# Altium footprint library Passive.PcbLib: 74 footprints (part 1 of 5)
Each footprint in its own frame and in the unit in brackets; x right, y up, seen from the top. Pads: shape width x height; smd on the part's side, far side on the other; paste and mask are expansions set on the pad; w line width, h text height; cw(c..) or ccw(c..) is an arc to the next point about the centre after c.
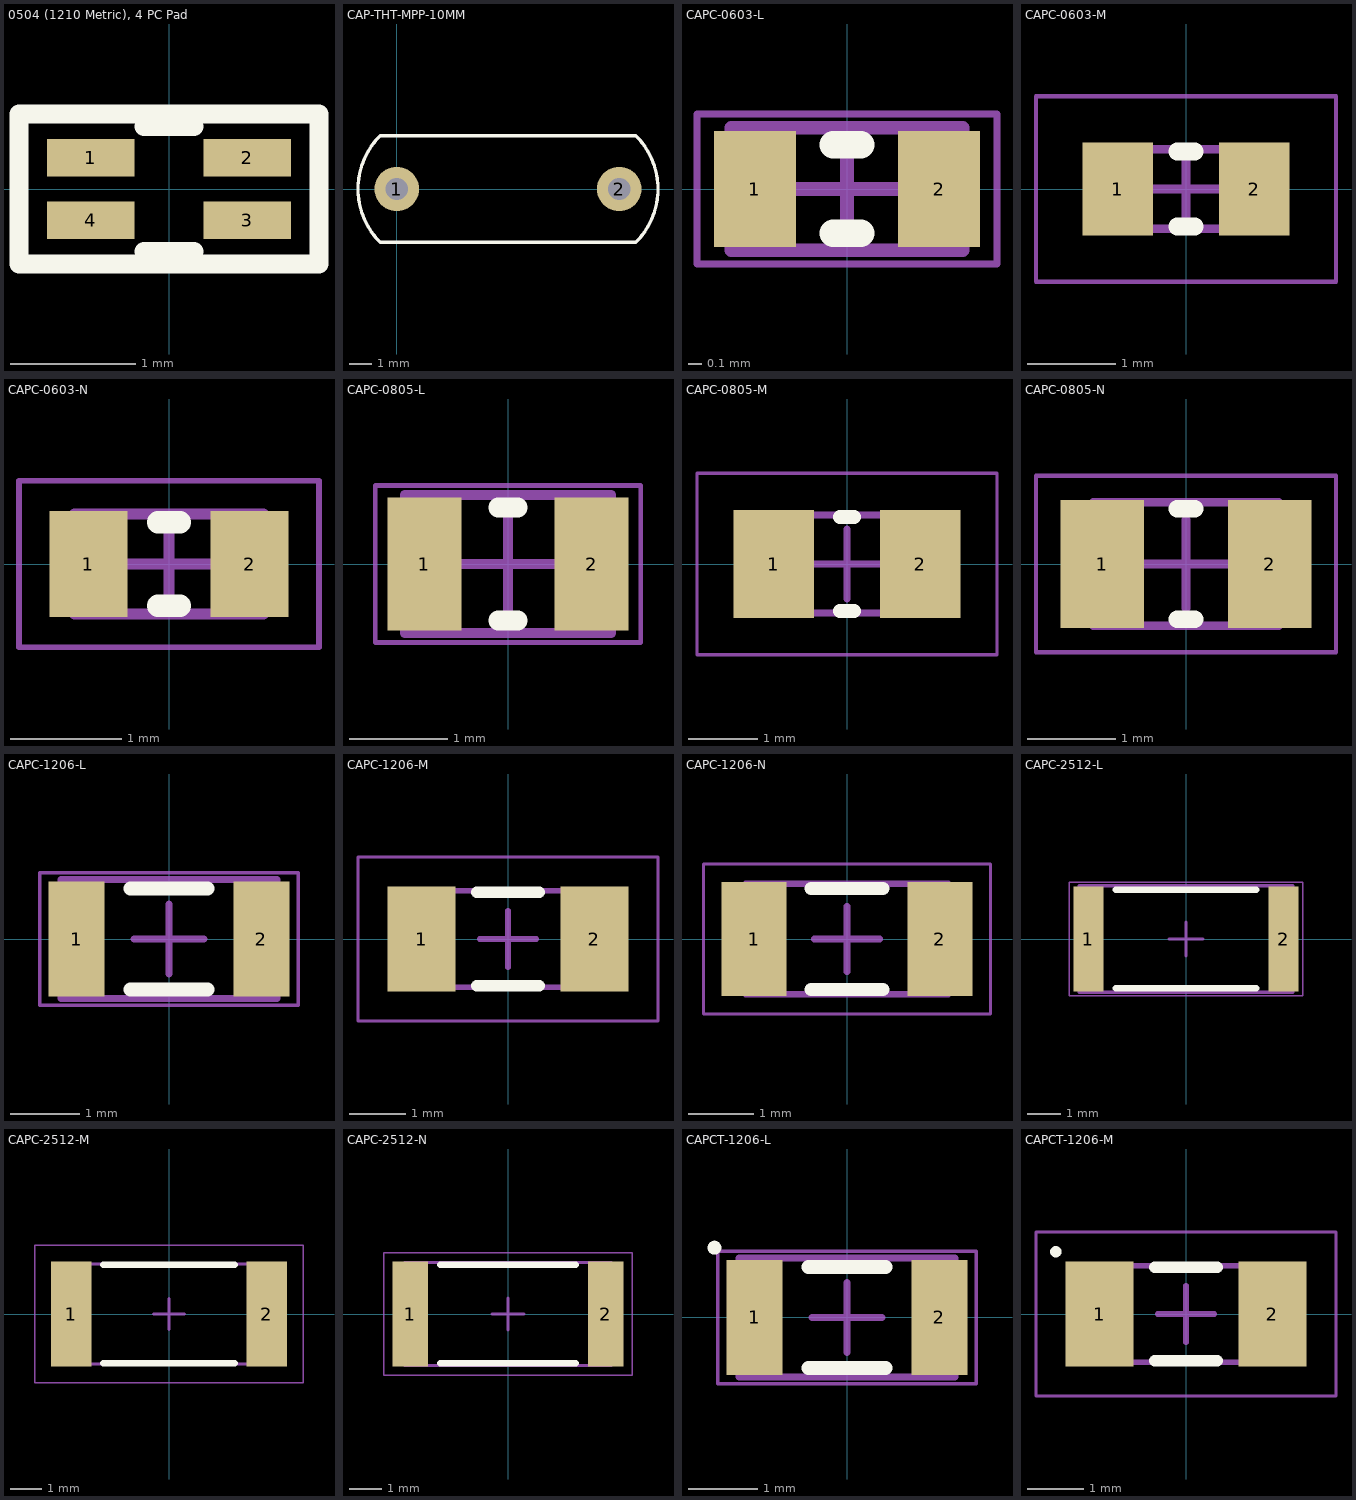
[diagram p0: the footprints below, top view; thin cyan lines are the x and y axes]

## 0504 (1210 Metric), 4 PC Pad [mm]
pads (4):
  rect 0.7x0.3 smd: 1(-0.625,0.25) 2(0.625,0.25) 3(0.625,-0.25) 4(-0.625,-0.25)
Top Overlay:
  lines w0.15: -0.2,-0.5 0.2,-0.5 ; -0.2,0.5 0.2,0.5 ; -1.2,-0.6 -1.2,0.6 1.2,0.6 1.2,-0.6 -1.2,-0.6
3D body: height 0.6, standoff 0, extent -0.7,-0.5 0.7,0.5

## CAP-THT-MPP-10MM [mm]
pads (2):
  round 2 hole 1: 1(0,0) 2(10,0)
Top Overlay:
  lines w0.15: -0.75,-2.4 cw(c1.65,0) -0.75,2.4 10.75,2.4 cw(c8.35,0) 10.75,-2.4 -0.75,-2.4
3D body "plasticcapacitor.step": height 11, standoff -9, extent -0.82,-2.502 10.82,2.502

## CAPC-0603-L [mm] "Chip Capacitor, 2-Leads, Body 1.60x0.80mm, IPC High Density"
height 0.45
pads (2):
  rect 0.6x0.85 smd: 1(-0.675,0) 2(0.675,0)
Top Overlay:
  lines w0.2: -0.1,-0.325 0.1,-0.325 ; -0.1,0.325 0.1,0.325
Mechanical 13:
  lines w0.1: -0.85,-0.45 -0.85,0.45 0.85,0.45 0.85,-0.45 -0.85,-0.45
Mechanical 15:
  lines w0.05: -1.1,-0.55 -1.1,0.55 1.1,0.55 1.1,-0.55 -1.1,-0.55
  lines w0.1: -0.45,0 0.45,0 ; 0,-0.45 0,0.45
3D body "CAPC-0603-L.step": height 0.45, standoff 0, extent -0.85,-0.45 0.85,0.45

## CAPC-0603-M [mm] "Chip Capacitor, 2-Leads, Body 1.60x0.80mm, IPC Low Density"
height 0.45
pads (2):
  rect 0.8x1.05 smd: 1(-0.775,0) 2(0.775,0)
Top Overlay:
  lines w0.2: -0.1,-0.425 0.1,-0.425 ; -0.1,0.425 0.1,0.425
Mechanical 13:
  lines w0.1: -0.85,-0.45 0.85,-0.45 0.85,0.45 -0.85,0.45 -0.85,-0.45
Mechanical 15:
  lines w0.05: -1.7,-1.05 1.7,-1.05 1.7,1.05 -1.7,1.05 -1.7,-1.05
  lines w0.1: -0.45,0 0.45,0 ; 0,-0.45 0,0.45
3D body "CAPC-0603-M.step": height 0.45, standoff 0, extent -0.85,-0.45 0.85,0.45

## CAPC-0603-N [mm] "Chip Capacitor, 2-Leads, Body 1.60x0.80mm, IPC Medium Density"
height 0.45
pads (2):
  rect 0.7x0.95 smd: 1(-0.725,0) 2(0.725,0)
Top Overlay:
  lines w0.2: -0.1,-0.375 0.1,-0.375 ; -0.1,0.375 0.1,0.375
Mechanical 13:
  lines w0.1: -0.85,-0.45 0.85,-0.45 0.85,0.45 -0.85,0.45 -0.85,-0.45
Mechanical 15:
  lines w0.05: -1.35,-0.75 1.35,-0.75 1.35,0.75 -1.35,0.75 -1.35,-0.75
  lines w0.1: -0.45,0 0.45,0 ; 0,-0.45 0,0.45
3D body "CAPC-0603-N.step": height 0.45, standoff 0, extent -0.85,-0.45 0.85,0.45

## CAPC-0805-L [mm] "Chip Capacitor, 2-Leads, Body 2.00x1.30mm, IPC High Density"
height 0.6
pads (2):
  rect 0.75x1.35 smd: 1(-0.85,0) 2(0.85,0)
Top Overlay:
  lines w0.2: -0.1,-0.575 0.1,-0.575 ; -0.1,0.575 0.1,0.575
Mechanical 13:
  lines w0.1: -1.05,-0.7 1.05,-0.7 1.05,0.7 -1.05,0.7 -1.05,-0.7
Mechanical 15:
  lines w0.05: -1.35,-0.8 1.35,-0.8 1.35,0.8 -1.35,0.8 -1.35,-0.8
  lines w0.1: -0.5,0 0.5,0 ; 0,-0.5 0,0.5
3D body "CAPC-0805-L.step": height 0.6, standoff 0, extent -1.05,-0.7 1.05,0.7

## CAPC-0805-M [mm] "Chip Capacitor, 2-Leads, Body 2.00x1.30mm, IPC Low Density"
height 0.6
pads (2):
  rect 1.15x1.55 smd: 1(-1.05,0) 2(1.05,0)
Top Overlay:
  lines w0.2: -0.1,-0.675 0.1,-0.675 ; -0.1,0.675 0.1,0.675
Mechanical 13:
  lines w0.1: -1.05,-0.7 -1.05,0.7 1.05,0.7 1.05,-0.7 -1.05,-0.7
Mechanical 15:
  lines w0.05: -2.15,-1.3 -2.15,1.3 2.15,1.3 2.15,-1.3 -2.15,-1.3
  lines w0.1: -0.5,0 0.5,0 ; 0,-0.5 0,0.5
3D body "CAPC-0805-M.step": height 0.6, standoff 0, extent -1.05,-0.7 1.05,0.7

## CAPC-0805-N [mm] "Chip Capacitor, 2-Leads, Body 2.00x1.30mm, IPC Medium Density"
height 0.6
pads (2):
  rect 0.95x1.45 smd: 1(-0.95,0) 2(0.95,0)
Top Overlay:
  lines w0.2: -0.1,-0.625 0.1,-0.625 ; -0.1,0.625 0.1,0.625
Mechanical 13:
  lines w0.1: -1.05,-0.7 -1.05,0.7 1.05,0.7 1.05,-0.7 -1.05,-0.7
Mechanical 15:
  lines w0.05: -1.7,-1 -1.7,1 1.7,1 1.7,-1 -1.7,-1
  lines w0.1: -0.5,0 0.5,0 ; 0,-0.5 0,0.5
3D body "CAPC-0805-N.step": height 0.6, standoff 0, extent -1.05,-0.7 1.05,0.7

## CAPC-1206-L [mm] "Chip Capacitor, 2-Leads, Body 3.05x1.60mm, IPC High Density"
height 0.6
pads (2):
  rect 0.8x1.65 smd: 1(-1.325,0) 2(1.325,0)
Top Overlay:
  lines w0.2: -0.55,-0.725 0.55,-0.725 ; -0.55,0.725 0.55,0.725
Mechanical 13:
  lines w0.1: -1.55,-0.85 1.55,-0.85 1.55,0.85 -1.55,0.85 -1.55,-0.85
Mechanical 15:
  lines w0.05: -1.85,-0.95 1.85,-0.95 1.85,0.95 -1.85,0.95 -1.85,-0.95
  lines w0.1: -0.5,0 0.5,0 ; 0,-0.5 0,0.5
3D body "CAPC-1206-L.step": height 0.6, standoff 0, extent -1.55,-0.85 1.55,0.85

## CAPC-1206-M [mm] "Chip Capacitor, 2-Leads, Body 3.05x1.60mm, IPC Low Density"
height 0.6
pads (2):
  rect 1.2x1.85 smd: 1(-1.525,0) 2(1.525,0)
Top Overlay:
  lines w0.2: -0.55,-0.825 0.55,-0.825 ; -0.55,0.825 0.55,0.825
Mechanical 13:
  lines w0.1: -1.55,-0.85 -1.55,0.85 1.55,0.85 1.55,-0.85 -1.55,-0.85
Mechanical 15:
  lines w0.05: -2.65,-1.45 -2.65,1.45 2.65,1.45 2.65,-1.45 -2.65,-1.45
  lines w0.1: -0.5,0 0.5,0 ; 0,-0.5 0,0.5
3D body "CAPC-1206-M.step": height 0.6, standoff 0, extent -1.55,-0.85 1.55,0.85

## CAPC-1206-N [mm] "Chip Capacitor, 2-Leads, Body 3.05x1.60mm, IPC Medium Density"
height 0.6
pads (2):
  rect 1x1.75 smd: 1(-1.425,0) 2(1.425,0)
Top Overlay:
  lines w0.2: -0.55,-0.775 0.55,-0.775 ; -0.55,0.775 0.55,0.775
Mechanical 13:
  lines w0.1: -1.55,-0.85 -1.55,0.85 1.55,0.85 1.55,-0.85 -1.55,-0.85
Mechanical 15:
  lines w0.05: -2.2,-1.15 -2.2,1.15 2.2,1.15 2.2,-1.15 -2.2,-1.15
  lines w0.1: -0.5,0 0.5,0 ; 0,-0.5 0,0.5
3D body "CAPC-1206-N.step": height 0.6, standoff 0, extent -1.55,-0.85 1.55,0.85

## CAPC-2512-L [mm] "Chip Capacitor, 2-Leads, Body 6.35x3.15mm, IPC High Density"
height 0.6
pads (2):
  rect 0.9x3.15 smd: 1(-2.925,0) 2(2.925,0)
Top Overlay:
  lines w0.2: -2.1,-1.475 2.1,-1.475 ; -2.1,1.475 2.1,1.475
Mechanical 13:
  lines w0.1: -3.2,-1.6 -3.2,1.6 3.2,1.6 3.2,-1.6 -3.2,-1.6
Mechanical 15:
  lines w0.05: -3.5,-1.7 -3.5,1.7 3.5,1.7 3.5,-1.7 -3.5,-1.7
  lines w0.1: -0.5,0 0.5,0 ; 0,-0.5 0,0.5
3D body "CAPC-2512-L.step": height 0.6, standoff 0, extent -3.2,-1.6 3.2,1.6

## CAPC-2512-M [mm] "Chip Capacitor, 2-Leads, Body 6.35x3.15mm, IPC Low Density"
height 0.6
pads (2):
  rect 1.3x3.35 smd: 1(-3.125,0) 2(3.125,0)
Top Overlay:
  lines w0.2: -2.1,-1.575 2.1,-1.575 ; -2.1,1.575 2.1,1.575
Mechanical 13:
  lines w0.1: -3.2,-1.6 -3.2,1.6 3.2,1.6 3.2,-1.6 -3.2,-1.6
Mechanical 15:
  lines w0.05: -4.3,-2.2 -4.3,2.2 4.3,2.2 4.3,-2.2 -4.3,-2.2
  lines w0.1: -0.5,0 0.5,0 ; 0,-0.5 0,0.5
3D body "CAPC-2512-M.step": height 0.6, standoff 0, extent -3.2,-1.6 3.2,1.6

## CAPC-2512-N [mm] "Chip Capacitor, 2-Leads, Body 6.35x3.15mm, IPC Medium Density"
height 0.6
pads (2):
  rect 1.1x3.25 smd: 1(-3.025,0) 2(3.025,0)
Top Overlay:
  lines w0.2: -2.1,-1.525 2.1,-1.525 ; -2.1,1.525 2.1,1.525
Mechanical 13:
  lines w0.1: -3.2,-1.6 3.2,-1.6 3.2,1.6 -3.2,1.6 -3.2,-1.6
Mechanical 15:
  lines w0.05: -3.85,-1.9 3.85,-1.9 3.85,1.9 -3.85,1.9 -3.85,-1.9
  lines w0.1: -0.5,0 0.5,0 ; 0,-0.5 0,0.5
3D body "CAPC-2512-N.step": height 0.6, standoff 0, extent -3.2,-1.6 3.2,1.6

## CAPCT-1206-L [mm] "Chip Capacitor, 2-Leads, Body 3.05x1.60mm, IPC High Density"
height 0.6
pads (2):
  rect 0.8x1.65 smd: 1(-1.325,0) 2(1.325,0)
Top Overlay:
  circle w0.1: c-1.9,1 r0.05
  lines w0.2: -0.55,-0.725 0.55,-0.725 ; -0.55,0.725 0.55,0.725
Mechanical 13:
  lines w0.1: -1.55,-0.85 -1.55,0.85 1.55,0.85 1.55,-0.85 -1.55,-0.85
Mechanical 15:
  lines w0.05: -1.85,-0.95 -1.85,0.95 1.85,0.95 1.85,-0.95 -1.85,-0.95
  lines w0.1: -0.5,0 0.5,0 ; 0,-0.5 0,0.5
3D body "CAPC-1206-L.step": height 0.6, standoff 0, extent -1.55,-0.85 1.55,0.85

## CAPCT-1206-M [mm] "Chip Capacitor, 2-Leads, Body 3.05x1.60mm, IPC Low Density"
height 0.6
pads (2):
  rect 1.2x1.85 smd: 1(-1.525,0) 2(1.525,0)
Top Overlay:
  circle w0.1: c-2.3,1.1 r0.05
  lines w0.2: -0.55,-0.825 0.55,-0.825 ; -0.55,0.825 0.55,0.825
Mechanical 13:
  lines w0.1: -1.55,-0.85 -1.55,0.85 1.55,0.85 1.55,-0.85 -1.55,-0.85
Mechanical 15:
  lines w0.05: -2.65,-1.45 -2.65,1.45 2.65,1.45 2.65,-1.45 -2.65,-1.45
  lines w0.1: -0.5,0 0.5,0 ; 0,-0.5 0,0.5
3D body "CAPC-1206-M.step": height 0.6, standoff 0, extent -1.55,-0.85 1.55,0.85